# Altium schematic symbol library Schlib1.SchLib: 14 symbols
Pins are listed as number, name and electrical type; pins without a type are passive.

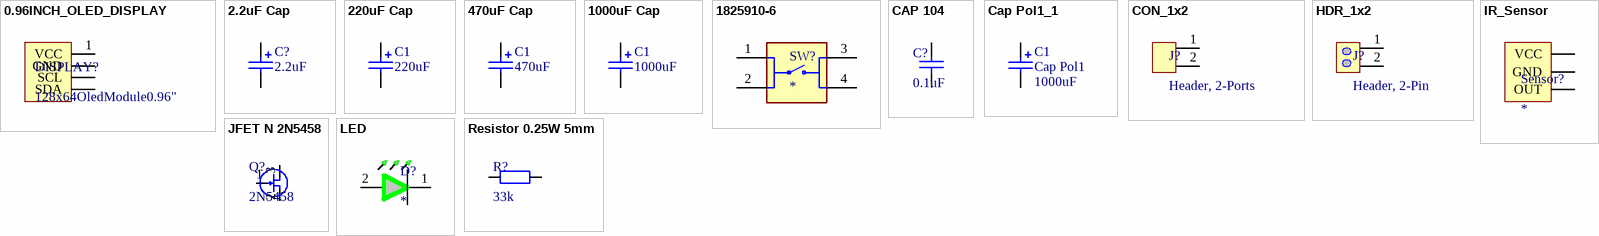
[diagram p0: symbols 0.96INCH_OLED_DISPLAY to Resistor 0.25W 5mm]

## 0.96INCH_OLED_DISPLAY
designator DISPLAY?, comment 128x64OledModule0.96"
OLED 4 Pin 128*64 Display Module 0.96” Blue Color
pins: 1 VCC, 2 GND, 3 SCL, 4 SDA

## 2.2uF Cap
designator C?, comment 2.2uF
Polarized Capacitor (Radial); Published: 8-Jun-2000; LatestRevisionDate: 17-Jul-2002; LatestRevisionNote: Re-released for DXP Platform.; PackageReference: RB7.6-15; Publisher: Altium Limited; PackageDescription: Polarized Capacitor (Radial); 2 Leads
footprint CAPPR 220uF 3mm_pin 8mmcase
pins: 1, 2
1 alternate drawing of the same symbol

## 220uF Cap
designator C1, comment 220uF
Polarized Capacitor (Radial); Published: 8-Jun-2000; LatestRevisionDate: 17-Jul-2002; LatestRevisionNote: Re-released for DXP Platform.; PackageReference: RB7.6-15; Publisher: Altium Limited; PackageDescription: Polarized Capacitor (Radial); 2 Leads
footprint CAPPR 220uF 3mm_pin 8mmcase
pins: 1, 2
1 alternate drawing of the same symbol

## 470uF Cap
designator C1, comment 470uF
Polarized Capacitor (Radial); Published: 8-Jun-2000; LatestRevisionDate: 17-Jul-2002; LatestRevisionNote: Re-released for DXP Platform.; PackageReference: RB7.6-15; Publisher: Altium Limited; PackageDescription: Polarized Capacitor (Radial); 2 Leads
footprint CAPPR 470uF 5mm_pin 10mmcase
pins: 1, 2
1 alternate drawing of the same symbol

## 1000uF Cap
designator C1, comment 1000uF
Polarized Capacitor (Radial); Published: 8-Jun-2000; LatestRevisionDate: 17-Jul-2002; LatestRevisionNote: Re-released for DXP Platform.; PackageReference: RB7.6-15; Publisher: Altium Limited; PackageDescription: Polarized Capacitor (Radial); 2 Leads
footprint CAPPR 1000uF 5mm_pin 13mmcase
pins: 1, 2
1 alternate drawing of the same symbol

## 1825910-6
designator SW?
Switch Push Button OFF (ON) SPST Round Button 0.05A 24VDC Momentary Contact PC Pins Thru-Hole; MP: 1825910-6; MF: TE Connectivity; Value: *; Package: None; Check_prices: https://www.snapeda.com/parts/1825910-6/TE+Connectivity+ALCOSWITCH+Switches/view-part/?ref=eda; SnapEDA_Link: https://www.snapeda.com/parts/1825910-6/TE+Connectivity+ALCOSWITCH+Switches/view-part/?ref=snap; Digi-Key_Part_Number: 450-1650-ND; Purchase-URL: https://pricing.snapeda.com/search/part/1825910-6/?ref=eda
footprint SW_1825910-6-4
pins: 1, 2, 3, 4

## CAP 104
designator C?, comment 0.1uF
104 cap
footprint CAP104 0.1uF 3mm_pin (104 Ceramic cap)
pins: 1, 2

## Cap Pol1_1
designator C1, comment Cap Pol1  value 1000uF
Polarized Capacitor (Radial); Published: 8-Jun-2000; LatestRevisionDate: 17-Jul-2002; LatestRevisionNote: Re-released for DXP Platform.; PackageReference: RB7.6-15; Publisher: Altium Limited; PackageDescription: Polarized Capacitor (Radial); 2 Leads
simulation model CAP (Capacitor)
signal-integrity model Cap Pol
footprint CAPPRD750W80D1600H2700
footprint CAPPR 1000uF 5mm_pin 13mmcase
pins: 1, 2
1 alternate drawing of the same symbol

## CON_1x2
designator J?, comment Header, 2-Ports
Connector, 2-Ports
footprint HDR_1X2_TE (282836-2)
pins: 1, 2

## HDR_1x2
designator J?, comment Header, 2-Pin
footprint HDR_1x2_pin
pins: 1, 2

## IR_Sensor
designator Sensor?
IR_SENSOR
pins: 1 VCC, 2 GND, 3 OUT

## JFET N 2N5458
designator Q?, comment 2N5458
footprint 2N5458 (Jfet)
pins: 1, 2 S, 3 D

## LED
designator D?
footprint LED
pins: 1, 2

## Resistor 0.25W 5mm
designator R?, comment 33k
0.25W,Axial
footprint Resistor (Res_2mm_AxialTH)
pins: 1, 2